# EAGLE library part 74LS32 (library Gates)
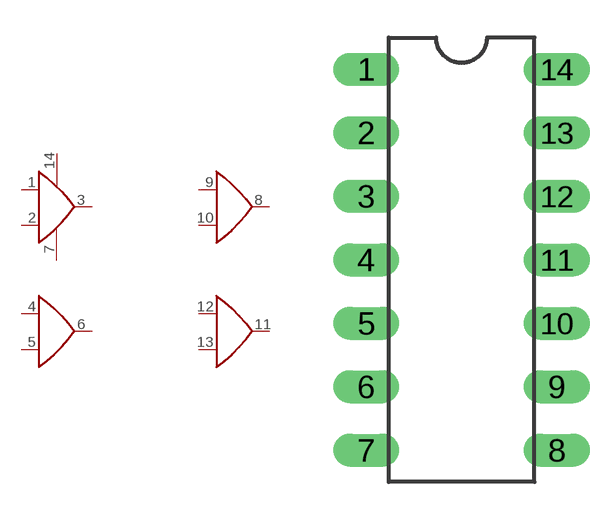
[diagram p0: symbol with the pads of DIP0.1-14; footprint DIP0.1-14]

Designator prefix -; gates G$1=2IN-OR-PWR G$2=2IN-OR G$3=2IN-OR G$4=2IN-OR

## 74LS32  [DIP0.1-14]
1  G$1:A
2  G$1:B
3  G$1:C
4  G$2:A
5  G$2:B
6  G$2:C
7  G$1:GND
8  G$3:C
9  G$3:A
10  G$3:B
11  G$4:C
12  G$4:A
13  G$4:B
14  G$1:PWR

## Footprint DIP0.1-14 (pad centres in mm)
drill 0.813 long: 1 -3.81,7.62; 2 -3.81,5.08; 3 -3.81,2.54; 4 -3.81,0; 5 -3.81,-2.54; 6 -3.81,-5.08; 7 -3.81,-7.62; 8 3.81,-7.62; 9 3.81,-5.08; 10 3.81,-2.54; 11 3.81,0; 12 3.81,2.54; 13 3.81,5.08; 14 3.81,7.62